# EAGLE library part RASPI_PITFT (library USSTCM)
2x20 header connector, all pins connected
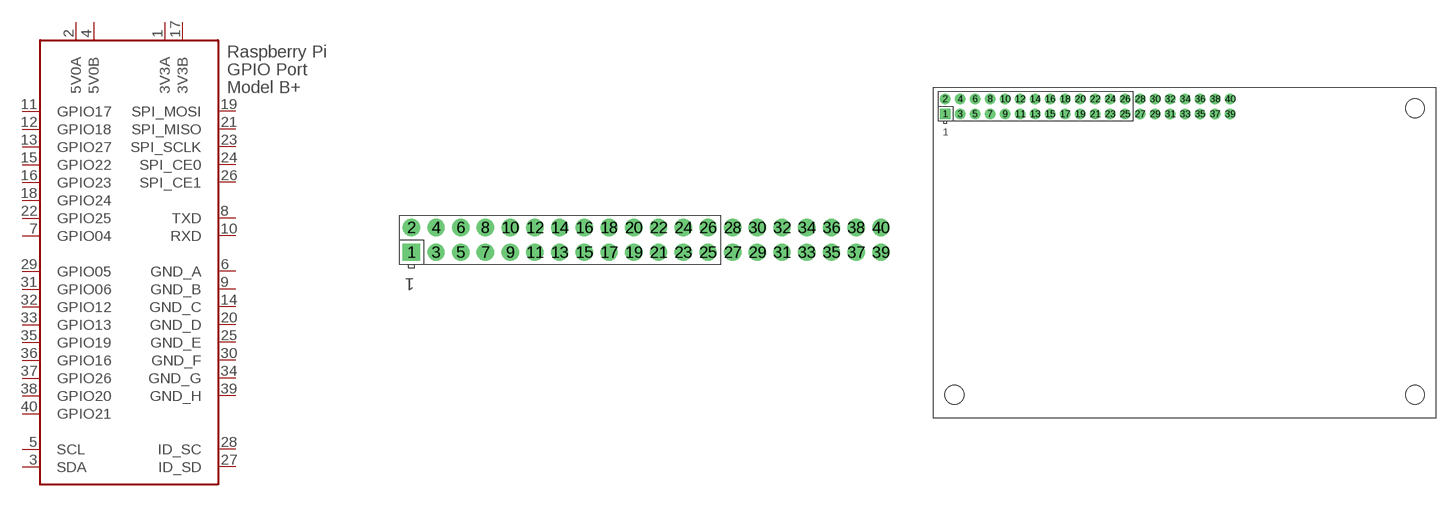
[diagram p8: symbol with the pads of RASPI_RASPI_GPIO_B+_PIN_NO_HOLES; footprints RASPI_RASPI_GPIO_B+_PIN_NO_HOLES, RASPI_RASPI_GPIO_B+_PIN]

Designator prefix X

## RASPI_PITFTNO_HOLES  [RASPI_RASPI_GPIO_B+_PIN_NO_HOLES]
1  3V3A  pwr
2  5V0A  pwr
3  SDA
4  5V0B  pwr
5  SCL
6  GND_A  pwr
7  GPIO04
8  TXD
9  GND_B  pwr
10  RXD
11  GPIO17
12  GPIO18
13  GPIO27
14  GND_C  pwr
15  GPIO22
16  GPIO23
17  3V3B  pwr
18  GPIO24
19  SPI_MOSI
20  GND_D  pwr
21  SPI_MISO
22  GPIO25
23  SPI_SCLK
24  SPI_CE0
25  GND_E  pwr
26  SPI_CE1
27  ID_SD  nc
28  ID_SC  nc
29  GPIO05  nc
30  GND_F  pwr
31  GPIO06  nc
32  GPIO12  nc
33  GPIO13  nc
34  GND_G  pwr
35  GPIO19  nc
36  GPIO16  nc
37  GPIO26  nc
38  GPIO20  nc
39  GND_H  pwr
40  GPIO21  nc

## RASPI_PITFT_  [RASPI_RASPI_GPIO_B+_PIN]
Pads as for RASPI_RASPI_GPIO_B+_PIN_NO_HOLES

## Footprint RASPI_RASPI_GPIO_B+_PIN_NO_HOLES (pad centres in mm)
40-pin connector for Raspberry Pi GPIO model B+ just the two rows of pins
drill 1 pad 1.778 square: 1 1.97,-4.47
drill 1 pad 1.778: 2 1.97,-1.93; 3 4.51,-4.47; 4 4.51,-1.93; 5 7.05,-4.47; 6 7.05,-1.93; 7 9.59,-4.47; 8 9.59,-1.93; 9 12.13,-4.47; 10 12.13,-1.93; 11 14.67,-4.47; 12 14.67,-1.93; 13 17.21,-4.47; 14 17.21,-1.93; 15 19.75,-4.47; 16 19.75,-1.93; 17 22.29,-4.47; 18 22.29,-1.93; 19 24.83,-4.47; 20 24.83,-1.93; 21 27.37,-4.47; 22 27.37,-1.93; 23 29.91,-4.47; 24 29.91,-1.93; 25 32.45,-4.47; 26 32.45,-1.93; 27 34.99,-4.47; 28 34.99,-1.93; 29 37.53,-4.47; 30 37.53,-1.93; 31 40.07,-4.47; 32 40.07,-1.93; 33 42.61,-4.47; 34 42.61,-1.93; 35 45.15,-4.47; 36 45.15,-1.93; 37 47.69,-4.47; 38 47.69,-1.93; 39 50.23,-4.47; 40 50.23,-1.93

## Footprint RASPI_RASPI_GPIO_B+_PIN (pad centres in mm)
40-pin connector for Raspberry Pi GPIO model B+ just the two rows of pins
drill 1 pad 1.778 square: 1 1.97,-4.47
drill 1 pad 1.778: 2 1.97,-1.93; 3 4.51,-4.47; 4 4.51,-1.93; 5 7.05,-4.47; 6 7.05,-1.93; 7 9.59,-4.47; 8 9.59,-1.93; 9 12.13,-4.47; 10 12.13,-1.93; 11 14.67,-4.47; 12 14.67,-1.93; 13 17.21,-4.47; 14 17.21,-1.93; 15 19.75,-4.47; 16 19.75,-1.93; 17 22.29,-4.47; 18 22.29,-1.93; 19 24.83,-4.47; 20 24.83,-1.93; 21 27.37,-4.47; 22 27.37,-1.93; 23 29.91,-4.47; 24 29.91,-1.93; 25 32.45,-4.47; 26 32.45,-1.93; 27 34.99,-4.47; 28 34.99,-1.93; 29 37.53,-4.47; 30 37.53,-1.93; 31 40.07,-4.47; 32 40.07,-1.93; 33 42.61,-4.47; 34 42.61,-1.93; 35 45.15,-4.47; 36 45.15,-1.93; 37 47.69,-4.47; 38 47.69,-1.93; 39 50.23,-4.47; 40 50.23,-1.93
hole 3.2 at 3.5,-52
hole 3.2 at 81.5,-3.5
hole 3.2 at 81.5,-52